# Altium schematic symbol library EGB220.SchLib: 4 symbols
Pins are listed as number, name and electrical type; pins without a type are passive.

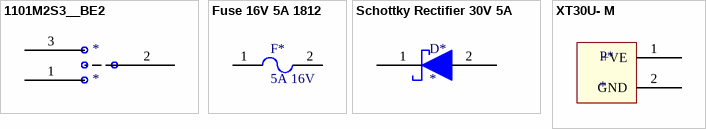
[diagram p0: symbols 1101M2S3__BE2 to XT30U- M]

## 1101M2S3__BE2
designator *
footprint 1101M2S3__BE2
pins: 1, 2, 3

## Fuse 16V 5A 1812
designator F*, comment 5A 16V
ComponentLink1Description: Datasheet; ComponentLink1URL: https://www.bourns.com/docs/Product-Datasheets/mfmsmf.pdf; ComponentLink2Description: Supplier; ComponentLink2URL: https://www.digikey.com.au/product-detail/en/bourns-inc/MF-MSMF250-16X-2/MF-MSMF250-16X-2CT-ND/3437789
footprint Fuse 5A 16V 1812
pins: 1, 2

## Schottky Rectifier 30V 5A
designator D*
ComponentLink1Description: Datasheet; ComponentLink1URL: https://assets.nexperia.com/documents/data-sheet/PMEG3050EP.pdf
footprint Schottky Diode 30V 5A
pins: 1 K, 2 A

## XT30U- M
designator P*
footprint XT30U-M
pins: 1 +VE, 2 GND